# Altium schematic symbol library MB0016A.01.A.1.SchLib: 1 symbol
Pins are listed as number, name and electrical type; pins without a type are passive.

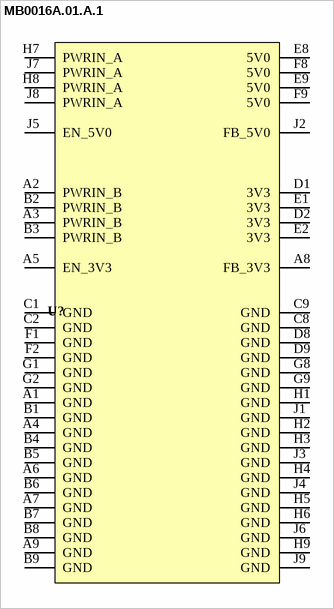
[diagram p0: symbol MB0016A.01.A.1]

## MB0016A.01.A.1
designator U?
Module Component 56-Pin, 10x10mm
pins: A1 GND (power), A2 PWRIN_B (power), A3 PWRIN_B (power), A4 GND (power), A5 EN_3V3, A6 GND (power), A7 GND (power), A8 FB_3V3, A9 GND (power), B1 GND (power), B2 PWRIN_B (power), B3 PWRIN_B (power), B4 GND (power), B5 GND (power), B6 GND (power), B7 GND (power), B8 GND (power), B9 GND (power), C1 GND (power), C2 GND (power), C8 GND (power), C9 GND (power), D1 3V3 (power), D2 3V3 (power), D8 GND (power), D9 GND (power), E1 3V3 (power), E2 3V3 (power), E8 5V0 (power), E9 5V0 (power), F1 GND (power), F2 GND (power), F8 5V0 (power), F9 5V0 (power), G1 GND (power), G2 GND (power), G8 GND (power), G9 GND (power), H1 GND (power), H2 GND (power), H3 GND (power), H4 GND (power), H5 GND (power), H6 GND (power), H7 PWRIN_A (power), H8 PWRIN_A (power), H9 GND (power), J1 GND (power), J2 FB_5V0, J3 GND (power), J4 GND (power), J5 EN_5V0, J6 GND (power), J7 PWRIN_A (power), J8 PWRIN_A (power), J9 GND (power)